# Altium footprint library VESC_BMS.PcbLib: 78 footprints (part 5 of 5)
Each footprint in its own frame and in the unit in brackets; x right, y up, seen from the top. Pads: shape width x height; smd on the part's side, far side on the other; paste and mask are expansions set on the pad; w line width, h text height; cw(c..) or ccw(c..) is an arc to the next point about the centre after c.
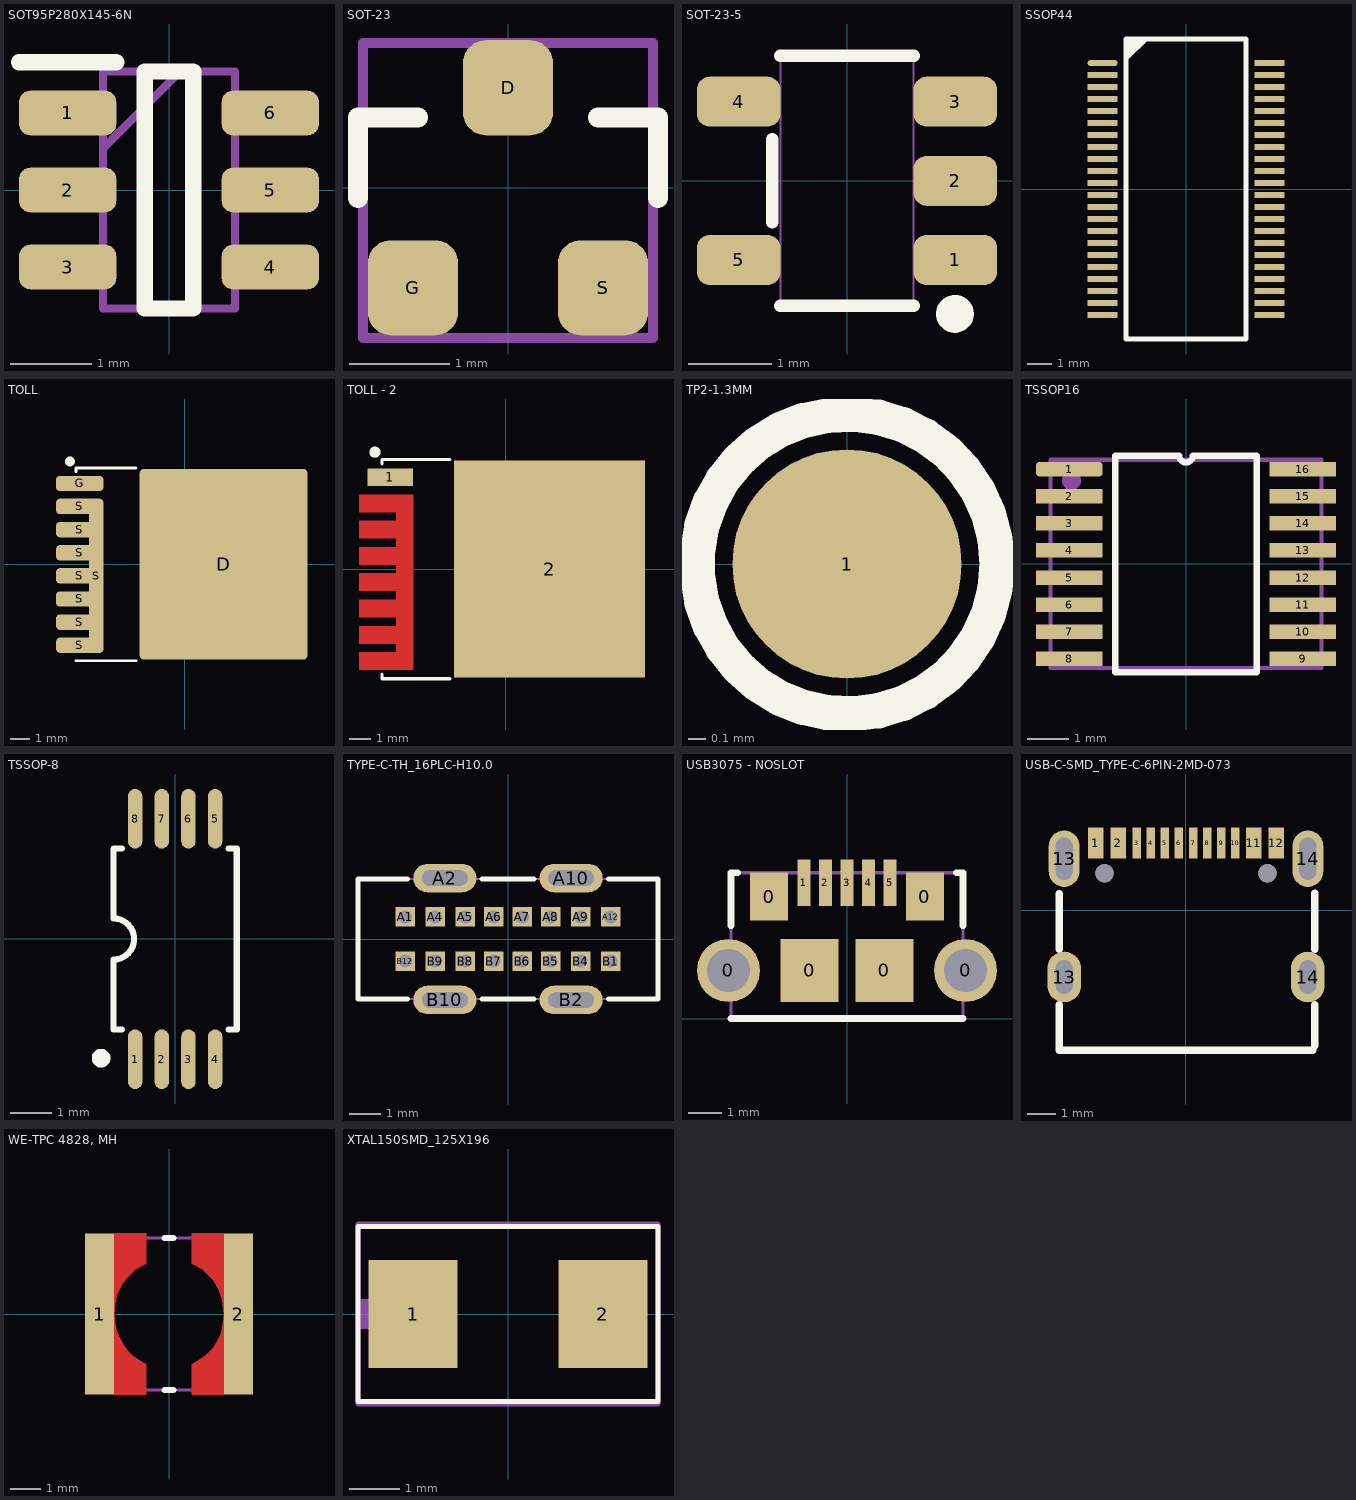
[diagram p4: the footprints below, top view; thin cyan lines are the x and y axes]

## SOT95P280X145-6N [mm]
pads (6):
  rrect50% 1.2x0.55 smd: 1(-1.25,0.95) 2(-1.25,0) 3(-1.25,-0.95) 4(1.25,-0.95) 5(1.25,0) 6(1.25,0.95)
Top Overlay:
  lines w0.2: -1.85,1.575 -0.65,1.575 ; -0.3,-1.462 -0.3,1.462 0.3,1.462 0.3,-1.462 -0.3,-1.462
Mechanical 1:
  lines w0.1: -0.812,0.512 0.138,1.462 ; -0.812,-1.462 -0.812,1.462 0.812,1.462 0.812,-1.462 -0.812,-1.462
3D body "SRV05-4-P-T7.stp": height 1.45, standoff 0, extent -1.4,-1.462 1.4,1.462

## SOT-23 [mm]
height 1.1
pads (3):
  rrect50% 0.9x0.95 smd: D(0,1) G(-0.95,-1) S(0.95,-1)
Top Overlay:
  lines w0.2: -1.5,-0.1 -1.5,0.7 -0.9,0.7 ; 0.9,0.7 1.5,0.7 1.5,-0.1
Mechanical 29:
  lines w0.1: -1.45,-1.5 -1.45,1.45 1.45,1.45 1.45,-1.5 -1.45,-1.5
  text ".Designator" at -1.3,-0.35 h0.8
3D body "User Library-SOT23-2.step": height 1.08, standoff 0, extent -1.5,-1.32 1.5,1.32

## SOT-23-5 [mm] "SOT-23-5"
pads (5):
  rrect50% 1.001x0.599 smd: 1(1.301,-0.95) 2(1.301,0) 3(1.301,0.95) 4(-1.301,0.95) 5(-1.301,-0.95)
Top Overlay:
  circle w0.254: c1.296,-1.597 r0.1
  lines w0.15: -0.899,-0.5 -0.899,0.5 ; -0.8,-1.501 0.8,-1.501 ; -0.8,1.501 0.8,1.501
Mechanical 1:
  lines w0.025: -0.8,-1.45 0.8,-1.45 0.8,1.45 -0.8,1.45 -0.8,-1.45
3D body "XC6219B332MRN.stp": height 1.3, standoff 0, extent -1.4,-1.45 1.4,1.45

## SSOP44 [mm]
pads (44):
  oval 1.25x0.25 smd: 1(-3.475,5.25)
  rect 1.25x0.25 smd: 2(-3.475,4.75) 3(-3.475,4.25) 4(-3.475,3.75) 5(-3.475,3.25) 6(-3.475,2.75) 7(-3.475,2.25) 8(-3.475,1.75) 9(-3.475,1.25) 10(-3.475,0.75) 11(-3.475,0.25) 12(-3.475,-0.25) 13(-3.475,-0.75) 14(-3.475,-1.25) 15(-3.475,-1.75) 16(-3.475,-2.25) 17(-3.475,-2.75) 18(-3.475,-3.25) 19(-3.475,-3.75) 20(-3.475,-4.25) 21(-3.475,-4.75) 22(-3.475,-5.25) 23(3.475,-5.25) 24(3.475,-4.75) 25(3.475,-4.25) 26(3.475,-3.75) 27(3.475,-3.25) 28(3.475,-2.75) 29(3.475,-2.25) 30(3.475,-1.75) 31(3.475,-1.25) 32(3.475,-0.75) 33(3.475,-0.25) 34(3.475,0.25) 35(3.475,0.75) 36(3.475,1.25) 37(3.475,1.75) 38(3.475,2.25) 39(3.475,2.75) 40(3.475,3.25) 41(3.475,3.75) 42(3.475,4.25) 43(3.475,4.75) 44(3.475,5.25)
Top Overlay:
  region: -2.4,6.2 -2.4,5.4 -1.6,6.2
  lines w0.2: 0.8,6.25 2.5,6.25 2.5,-6.25 -2.5,-6.25 -2.5,6.25 0.825,6.25
3D body: height 2, standoff 0.1, extent -2.5,-6.3 2.5,6.3
3D body "SW3dPS-TSSOP-38.STEP": height 1.09, standoff 0.01, extent -3.757,-5.6 2.657,4.1
3D body "SW3dPS-TSSOP-38.STEP": height 1.09, standoff 0.01, extent -2.656,-5.6 3.758,4.1
3D body "SW3dPS-TSSOP-38.STEP": height 1.09, standoff 0.01, extent -2.656,-4.1 3.758,5.6
3D body "SW3dPS-TSSOP-38.STEP": height 1.09, standoff 0.01, extent -3.757,-4.1 2.657,5.6

## TOLL [mm] "TOLL"
pads (10):
  rrect5% 8.7x9.9 smd: D(2,0)
  rrect50% 2.463x0.8 smd: G(-5.459,4.191) S(-5.459,-4.199) S(-5.459,-2.999) S(-5.459,-1.799) S(-5.459,-0.599) S(-5.459,0.601) S(-5.459,1.801) S(-5.459,3.001)
  rrect50% 0.763x8 smd: S(-4.609,-0.599)
Top Overlay:
  circle w0.254: c-5.969,5.334 r0.127
  lines w0.15: -5.65,-5 -2.55,-5 ; -5.65,4.8 -5.65,5 -2.55,5
3D body "IAUT300N10S5N015ATMA1.stp": height 2.3, standoff 0, extent -6.041,-4.95 5.633,4.95

## TOLL - 2 [mm] "TOLL"
pads (4):
  rect 2.063x0.8 smd: 1(-5.269,4.2)
  rect 8.7x9.9 smd: 2(2,0)
  oct 0.025x0.025 smd: 3(-5.46,-0.6)
  round 0.025 smd: 3(-5.46,-0.6)
Top Layer:
  region: -6.691,3.4 -4.228,3.4 -4.228,-4.6 -6.691,-4.6 -6.691,-3.8 -4.991,-3.8 -4.991,-3.4 -6.691,-3.4 -6.691,-2.6 -4.991,-2.6 -4.991,-2.2 -6.691,-2.2 -6.691,-1.4 -4.991,-1.4 -4.991,-1 -6.691,-1 -6.691,-0.2 -4.991,-0.2 -4.991,0.2 -6.691,0.2 -6.691,1 -4.991,1 -4.991,1.4 -6.691,1.4 -6.691,2.2 -4.991,2.2 -4.991,2.6 -6.691,2.6
Top Overlay:
  circle w0.254: c-5.969,5.334 r0.127
  lines w0.15: -5.65,-4.8 -5.65,-5 -2.55,-5 ; -5.65,4.8 -5.65,5 -2.55,5
Top Paste:
  region: -6.691,3.4 -4.228,3.4 -4.228,-4.6 -6.691,-4.6 -6.691,-3.8 -4.991,-3.8 -4.991,-3.4 -6.691,-3.4 -6.691,-2.6 -4.991,-2.6 -4.991,-2.2 -6.691,-2.2 -6.691,-1.4 -4.991,-1.4 -4.991,-1 -6.691,-1 -6.691,-0.2 -4.991,-0.2 -4.991,0.2 -6.691,0.2 -6.691,1 -4.991,1 -4.991,1.4 -6.691,1.4 -6.691,2.2 -4.991,2.2 -4.991,2.6 -6.691,2.6
  region: -6.691,3.4 -4.228,3.4 -4.228,-4.6 -6.691,-4.6 -6.691,-3.8 -4.991,-3.8 -4.991,-3.4 -6.691,-3.4 -6.691,-2.6 -4.991,-2.6 -4.991,-2.2 -6.691,-2.2 -6.691,-1.4 -4.991,-1.4 -4.991,-1 -6.691,-1 -6.691,-0.2 -4.991,-0.2 -4.991,0.2 -6.691,0.2 -6.691,1 -4.991,1 -4.991,1.4 -6.691,1.4 -6.691,2.2 -4.991,2.2 -4.991,2.6 -6.691,2.6
Top Solder:
  region: -6.741,3.45 -4.178,3.45 -4.178,-4.65 -6.741,-4.65 -6.741,-3.75 -5.041,-3.75 -5.041,-3.45 -6.741,-3.45 -6.741,-2.55 -5.041,-2.55 -5.041,-2.25 -6.741,-2.25 -6.741,-1.35 -5.041,-1.35 -5.041,-1.05 -6.741,-1.05 -6.741,-0.15 -5.041,-0.15 -5.041,0.15 -6.741,0.15 -6.741,1.05 -5.041,1.05 -5.041,1.35 -6.741,1.35 -6.741,2.25 -5.041,2.25 -5.041,2.55 -6.741,2.55
  region: -6.741,3.45 -4.178,3.45 -4.178,-4.65 -6.741,-4.65 -6.741,-3.75 -5.041,-3.75 -5.041,-3.45 -6.741,-3.45 -6.741,-2.55 -5.041,-2.55 -5.041,-2.25 -6.741,-2.25 -6.741,-1.35 -5.041,-1.35 -5.041,-1.05 -6.741,-1.05 -6.741,-0.15 -5.041,-0.15 -5.041,0.15 -6.741,0.15 -6.741,1.05 -5.041,1.05 -5.041,1.35 -6.741,1.35 -6.741,2.25 -5.041,2.25 -5.041,2.55 -6.741,2.55
3D body "IAUT300N10S5N015ATMA1.stp": height 2.3, standoff 0, extent -6.041,-4.95 5.633,4.95

## TP2-1.3MM [mm] "Test pin"
height 10
pads (1):
  round 1.3 smd paste-1 mask+0.051: 1(0,0)
Top Overlay:
  circle w0.2: c0,0 r0.85

## TSSOP16 [mm]
pads (16):
  rrect50% 1.6x0.35 smd: 1(-2.8,2.275)
  rect 1.6x0.35 smd: 2(-2.8,1.625) 3(-2.8,0.975) 4(-2.8,0.325) 5(-2.8,-0.325) 6(-2.8,-0.975) 7(-2.8,-1.625) 8(-2.8,-2.275) 9(2.8,-2.275) 10(2.8,-1.625) 11(2.8,-0.975) 12(2.8,-0.325) 13(2.8,0.325) 14(2.8,0.975) 15(2.8,1.625) 16(2.8,2.275)
Top Overlay:
  lines w0.15: -1.7,-2.6 -1.7,2.6 -0.162,2.6 ccw(c0,2.6) 0.162,2.6 1.7,2.6 1.7,-2.6 -1.7,-2.6
Mechanical 29:
  circle w0.254: c-2.75,2 r0.1
  lines w0.1: -3.25,-2.5 -3.25,2.5 3.25,2.5 3.25,-2.5 -3.25,-2.5
  text ".Designator" at 0.25,-2 h0.8
3D body "User Library-TSSOP16.step": height 1.09, standoff 0, extent -3.14,-2.5 3.14,2.5

## TSSOP-8 [mm] "TSSOP-8"
pads (8):
  oval 0.353x1.453 smd: 1(-0.975,-2.926) 2(-0.325,-2.926) 3(0.325,-2.926) 4(0.975,-2.926) 5(0.975,2.926) 6(0.325,2.926) 7(-0.325,2.926) 8(-0.975,2.926)
Top Overlay:
  circle w0.254: c-1.802,-2.901 r0.1
  lines w0.15: -1.301,-2.2 -1.501,-2.2 -1.501,-0.5 ccw(c-1.5,0) -1.501,0.5 -1.501,2.2 -1.301,2.2 ; 1.3,-2.2 1.501,-2.2 1.501,2.2 1.3,2.2
3D body "INA240A1PWR.stp": height 1.2, standoff 0, extent -1.5,-3.2 1.5,3.2

## TYPE-C-TH_16PLC-H10.0 [mm]
pads (20):
  rect 0.62x0.62 hole 0.42 paste-2539.97 mask+0.05: A1(-3.25,0.7) A4(-2.3,0.7) A5(-1.35,0.7) A6(-0.45,0.7) A7(0.45,0.7) A8(1.35,0.7) A9(2.3,0.7) A12(3.25,0.7) B1(3.25,-0.7) B4(2.3,-0.7) B5(1.35,-0.7) B6(0.45,-0.7) B7(-0.45,-0.7) B8(-1.35,-0.7) B9(-2.3,-0.7) B12(-3.25,-0.7)
  oval 2x0.9 hole 0.5 slot 1.45 at 0 deg paste-2539.97 mask+0.05: A2(-2,1.93) A10(2,1.93) B2(2,-1.93) B10(-2,-1.93)
Top Overlay:
  lines w0.15: -3.178,-1.9 -4.75,-1.9 -4.75,1.9 -3.178,1.9 ; -0.822,-1.9 0.822,-1.9 ; -0.822,1.9 0.822,1.9 ; 3.178,-1.9 4.75,-1.9 4.75,1.9 3.178,1.9
Mechanical 15:
  region: 1.5,2.08 2.5,2.08 2.5,1.78 1.5,1.78
  region: 1.5,-1.78 2.5,-1.78 2.5,-2.08 1.5,-2.08
  region: -2.5,-1.78 -1.5,-1.78 -1.5,-2.08 -2.5,-2.08
  region: -2.5,2.08 -1.5,2.08 -1.5,1.78 -2.5,1.78
  region: -3.39,-0.56 -3.11,-0.56 -3.11,-0.84 -3.39,-0.84
  region: -2.44,-0.56 -2.16,-0.56 -2.16,-0.84 -2.44,-0.84
  region: -1.49,-0.56 -1.21,-0.56 -1.21,-0.84 -1.49,-0.84
  region: -0.59,-0.56 -0.31,-0.56 -0.31,-0.84 -0.59,-0.84
  region: 0.31,-0.56 0.59,-0.56 0.59,-0.84 0.31,-0.84
  region: 1.21,-0.56 1.49,-0.56 1.49,-0.84 1.21,-0.84
  region: 2.16,-0.56 2.44,-0.56 2.44,-0.84 2.16,-0.84
  region: 3.11,-0.56 3.39,-0.56 3.39,-0.84 3.11,-0.84
  region: 3.11,0.84 3.39,0.84 3.39,0.56 3.11,0.56
  region: 2.16,0.84 2.44,0.84 2.44,0.56 2.16,0.56
  region: 1.21,0.84 1.49,0.84 1.49,0.56 1.21,0.56
  region: 0.31,0.84 0.59,0.84 0.59,0.56 0.31,0.56
  region: -0.59,0.84 -0.31,0.84 -0.31,0.56 -0.59,0.56
  region: -1.49,0.84 -1.21,0.84 -1.21,0.56 -1.49,0.56
  region: -2.44,0.84 -2.16,0.84 -2.16,0.56 -2.44,0.56
  region: -3.39,0.84 -3.11,0.84 -3.11,0.56 -3.39,0.56
  lines w0.051: -4.75,-1.9 -4.75,1.9 4.75,1.9 4.75,-1.9 -4.75,-1.9
3D body "RUYC-U1.step": height 10, standoff -2, extent -4.47,-2.08 4.47,2.08

## USB3075 - NOSLOT [mm]
height 2.35
pads (11):
  round 1.9 hole 1.3: 0(-3.575,1.45) 0(3.575,1.45)
  rect 1.15x1.45 smd: 0(-2.35,3.68) 0(2.35,3.68)
  rect 1.75x1.9 smd: 0(-1.125,1.45) 0(1.125,1.45)
  rect 0.4x1.4 smd: 1(-1.3,4.1) 2(-0.65,4.1) 3(0,4.1) 4(0.65,4.1) 5(1.3,4.1)
Top Overlay:
  lines w0.2: -3.5,0 3.5,0 ; -3.5,2.8 -3.5,4.4 -3.3,4.4 ; 3.3,4.4 3.5,4.4 3.5,2.8
Mechanical 29:
  lines w0.1: -3.5,0 -3.5,4.4 3.5,4.4 3.5,0 -3.5,0
  text ".designator" at -3.2,1.7 h1.3
3D body "USB3075-30-A_revD.step": height 2.59, standoff -1, extent -3.891,-1.2 3.892,4.29

## USB-C-SMD_TYPE-C-6PIN-2MD-073 [mm]
pads (18):
  rect 0.55x1.1 smd paste-100 mask+0.05: 1(-3.2,2.375) 2(-2.4,2.375) 11(2.4,2.375) 12(3.2,2.375)
  rect 0.3x1.1 smd paste-100 mask+0.05: 3(-1.75,2.375) 4(-1.25,2.375) 5(-0.75,2.375) 6(-0.25,2.375) 7(0.25,2.375) 8(0.75,2.375) 9(1.25,2.375) 10(1.75,2.375)
  oval 1.2x1.8 hole 0.6 slot 1.2 at 90 deg paste-2539.97 mask+0.05: 13(-4.325,-2.375) 14(4.325,-2.375)
  oval 1.1x2 hole 0.6 slot 1.5 at 90 deg paste-2539.97 mask+0.05: 13(-4.325,1.825) 14(4.325,1.825)
  round 0.65 hole 0.65 unplated: ""(-2.89,1.305) ""(2.89,1.305)
Top Overlay:
  lines w0.254: -4.5,-3.356 -4.5,-4.975 4.5,-4.975 ; -4.5,-1.394 -4.5,0.594 ; 4.572,-4.826 4.572,-3.353 ; 4.572,-1.397 4.572,0.597
Top Paste:
  drawing of 16 lines, arcs and shapes, not listed
3D body "USB-C-SMD_TYPE-C-6PIN-2MD-073.step": height 3.26, standoff -0.9, extent -4.47,-4.99 4.47,2.59

## WE-TPC 4828, MH [mm] "SMD Inductor, 2-Leads, Body 4,8x4,8mm"
height 3
pads (2):
  rect 0.95x5.3 smd: 1(-2.275,0) 2(2.275,0)
Top Layer:
  region: -1.8,2.65 -0.75,2.65 -0.75,1.65 -0.85,1.6 -1.1,1.45 -1.4,1.15 -1.55,0.95 -1.7,0.65 -1.75,0.45 -1.8,0
  region: 1.8,2.65 0.75,2.65 0.75,1.65 0.95,1.55 1.1,1.45 1.45,1.1 1.6,0.85 1.65,0.75 1.75,0.45 1.8,0
  region: 1.8,-2.65 0.75,-2.65 0.75,-1.65 1,-1.5 1.2,-1.35 1.45,-1.1 1.55,-0.95 1.7,-0.65 1.75,-0.45 1.8,0
  region: -1.8,-2.65 -0.75,-2.65 -0.75,-1.65 -1,-1.5 -1.2,-1.35 -1.35,-1.2 -1.5,-1 -1.65,-0.7 -1.7,-0.6 -1.75,-0.4 -1.8,0
Top Overlay:
  lines w0.2: -0.15,-2.5 0.15,-2.5 ; -0.15,2.5 0.15,2.5
Mechanical 13:
  lines w0.1: -2.5,-2.5 2.5,-2.5 2.5,2.5 -2.5,2.5 -2.5,-2.5
3D body "744043470.stp": height 2.79, standoff -0.01, extent -2.4,-2.4 2.4,2.4

## XTAL150SMD_125X196 [mil] "XTAL150SMD_125X196"
pads (2):
  rect 70x85 smd mask+2: 1(-74.8,0) 2(74.8,0)
Top Overlay:
  lines w3.94: -118.11,-68.9 118.11,-68.9 118.11,68.9 -118.11,68.9 -118.11,-68.9
Mechanical 29:
  rectangle: -118.11,-11.81 -98.43,11.81
  lines w3.94: -118.11,-70.87 -118.11,70.87 118.11,70.87 118.11,-70.87 -118.11,-70.87
  text ".Designator" at -90.55,-11.81 h31.5
3D body "User Library-ABM7.step": height 56.52, standoff 0, extent -120.08,-68.89 120.08,68.9